# EAGLE library part ML4624CP (library opto-micro-linear)
FIBER OPTIC DATA QUANTIZER
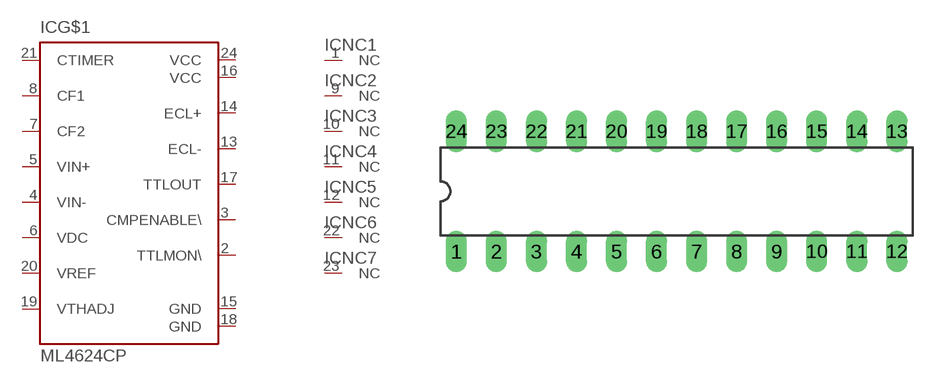
[diagram p2: symbol with the pads of DIL24-3; footprint DIL24-3]

Designator prefix IC; gates G$1=ML4624 NC1=NC NC2=NC NC3=NC NC4=NC NC5=NC NC6=NC NC7=NC

## ML4624CP  [DIL24-3]
1  NC1:NC  nc
2  G$1:TTLMON\  out
3  G$1:CMPENABLE\  in
4  G$1:VIN-  in
5  G$1:VIN+  in
6  G$1:VDC  pas
7  G$1:CF2  pas
8  G$1:CF1  pas
9  NC2:NC  nc
10  NC3:NC  nc
11  NC4:NC  nc
12  NC5:NC  nc
13  G$1:ECL-  out
14  G$1:ECL+  out
15  G$1:GND  pwr
16  G$1:VCC  pwr
17  G$1:TTLOUT  out
18  G$1:GND  pwr
19  G$1:VTHADJ  in
20  G$1:VREF  in
21  G$1:CTIMER  pas
22  NC6:NC  nc
23  NC7:NC  nc
24  G$1:VCC  pwr

## Footprint DIL24-3 (pad centres in mm)
Dual In Line Package 0.3 inch
drill 0.813 long: 1 -13.97,-3.81; 2 -11.43,-3.81; 3 -8.89,-3.81; 4 -6.35,-3.81; 5 -3.81,-3.81; 6 -1.27,-3.81; 7 1.27,-3.81; 8 3.81,-3.81; 9 6.35,-3.81; 10 8.89,-3.81; 11 11.43,-3.81; 12 13.97,-3.81; 13 13.97,3.81; 14 11.43,3.81; 15 8.89,3.81; 16 6.35,3.81; 17 3.81,3.81; 18 1.27,3.81; 19 -1.27,3.81; 20 -3.81,3.81; 21 -6.35,3.81; 22 -8.89,3.81; 23 -11.43,3.81; 24 -13.97,3.81